# EAGLE library part IDC-14 (library other)
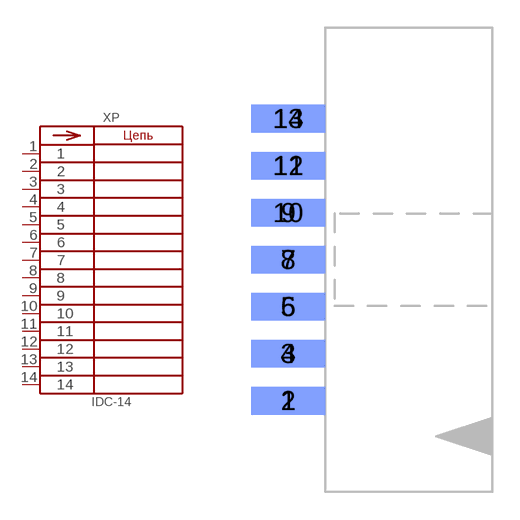
[diagram p7: symbol with the pads of IDC-14; footprint IDC-14]

Designator prefix XP

## IDC-14  [IDC-14]
1  1  pas
2  2  pas
3  3  pas
4  4  pas
5  5  pas
6  6  pas
7  7  pas
8  8  pas
9  9  pas
10  10  pas
11  11  pas
12  12  pas
13  13  pas
14  14  pas

## Footprint IDC-14 (pad centres in mm)
smd 4 x 1.5: 1 -5,-7.62; 3 -5,-5.08; 5 -5,-2.54; 7 -5,0; 9 -5,2.54; 11 -5,5.08; 13 -5,7.62
smd 4 x 1.5 bottom: 2 -5,-7.62; 4 -5,-5.08; 6 -5,-2.54; 8 -5,0; 10 -5,2.54; 12 -5,5.08; 14 -5,7.62